# Altium integrated library TI_Logic_Flip-Flop,Latch,Register.IntLib: 2598 symbols (part 36 of 122)
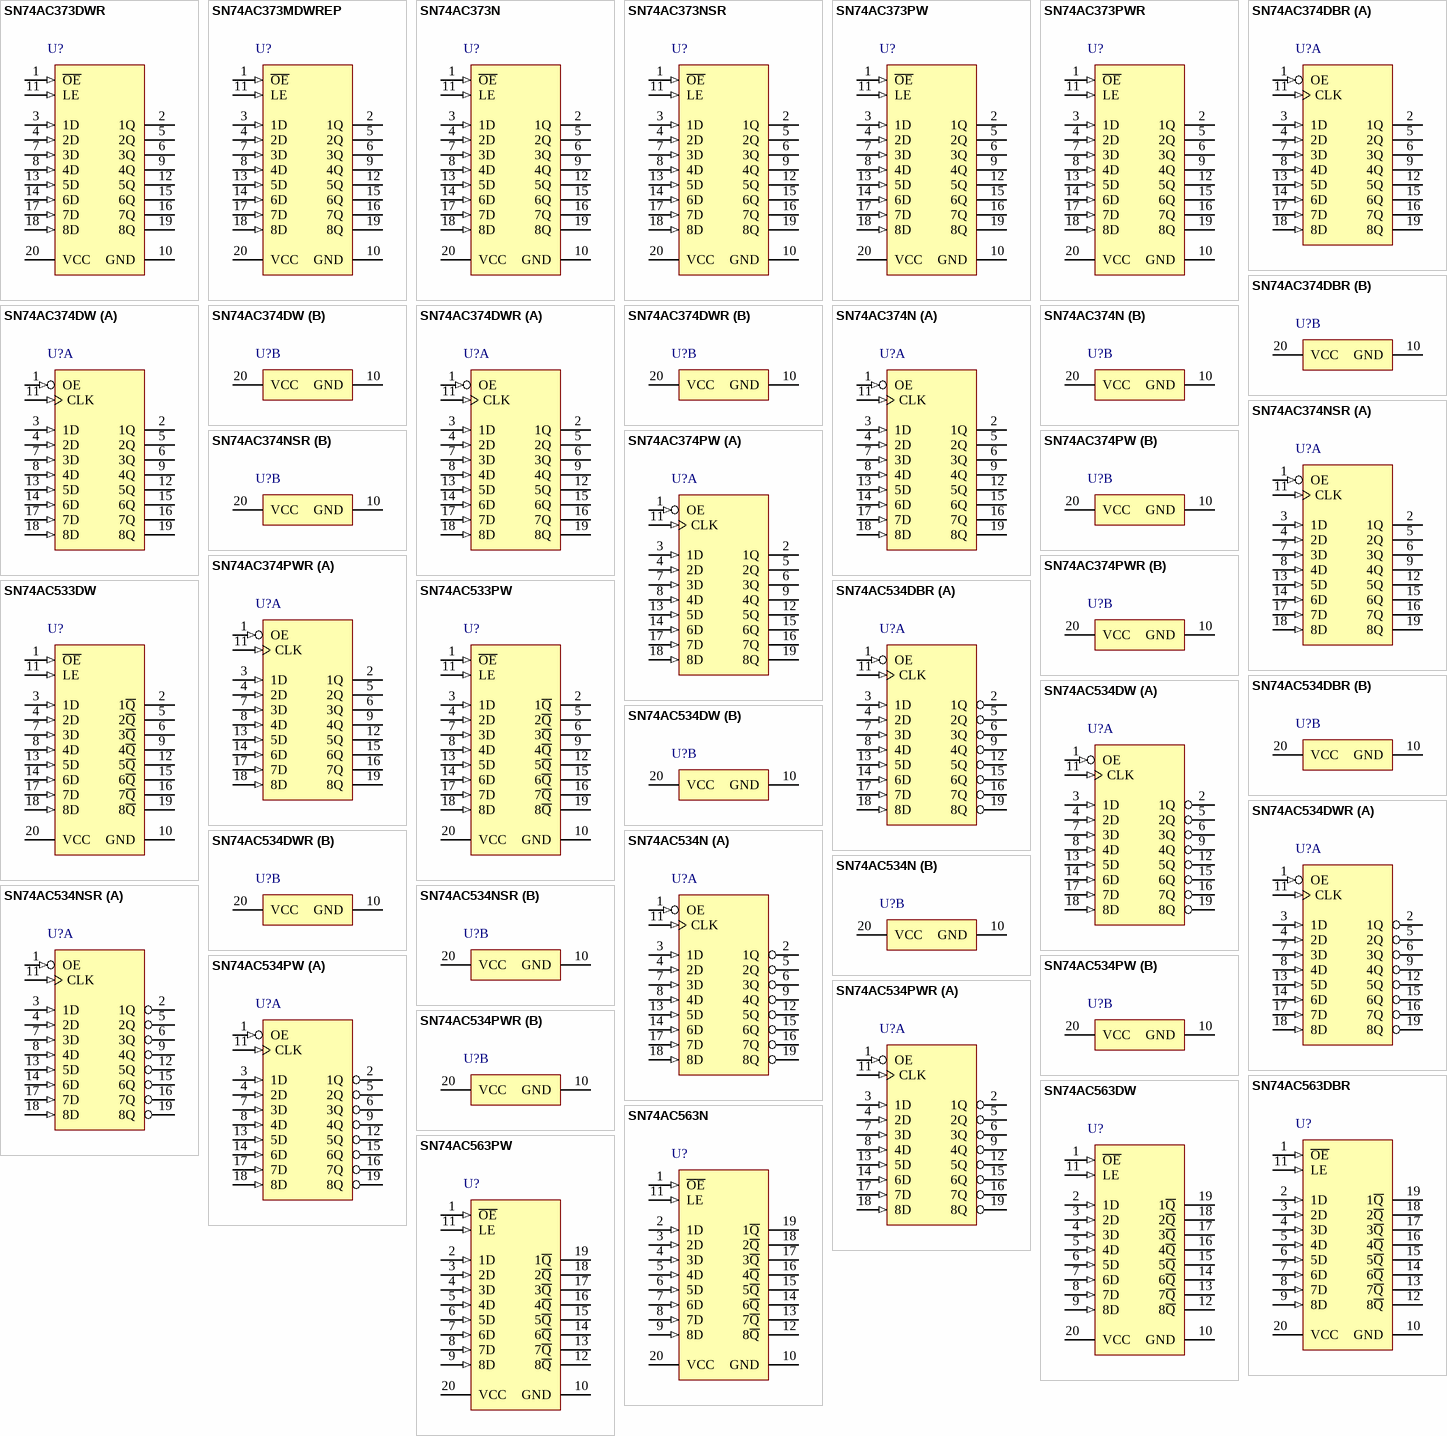
[diagram p174: symbols SN74AC373DWR to SN74AC563PW]

## SN74AC373MDWREP
designator U?
Enhanced Product Octal D-Type Transparent Latches With 3-State Outputs, DW0020A, LARGE T&R; Generic Part Number: SN74AC373-EP; Manufacturer: Texas Instruments; PartNumber: SN74AC373MDWREP; VCC(Min)(V): 2; VCC(Max)(V): 6; Output Type: CMOS; Logic: TRUE; Static Current: 0.04; ICC @ Nom Voltage(Max)(mA): 0.08; Bits(#): 8; F @ Nom Voltage(Max)(Mhz): 100; Rating: HiRel Enhanced Product; Technology Family: AC; Voltage(Nom)(V): 3.3,5; Schmitt Trigger: No; Output Drive (IOL/IOH)(Max)(mA): 24/-24; Output Logic: Non-inverted; 3-State Output: Yes; tpd @ Nom Voltage(Max)(ns): 14,10.5; DatasheetVersion: SCAS725; PackageReference: DW0020A; Supplier 1: Digi-Key; Supplier Part Number 1: 296-22253-2-ND; Supplier 2: Digi-Key; Supplier Part Number 2: 296-22253-1-ND; Supplier 3: Digi-Key; Supplier Part Number 3: 296-22253-6-ND; Supplier 4: Newark; Supplier Part Number 4: 45M9998; Supplier 5: Mouser; Supplier Part Number 5: 595-SN74AC373MDWREP; Input Type: CMOS; Operating Temperature Range(C): -55 to 125; Code_JEDEC: MS-013; ComponentLink1Description: Manufacturer URL; ComponentLink1URL: http://www.ti.com/; ComponentLink2Description: Datasheet; ComponentLink2URL: http://www.ti.com/lit/ds/symlink/sn74ac373-ep.pdf; ComponentLink3Description: Package Specification; ComponentLink3URL: http://www.ti.com/lit/ml/mpds173a/mpds173a.pdf
footprint DW0020A_N (SOIC, 20-Leads, Body 13x7.6mm, Pitch 1.27mm, IPC Medium Density)
footprint DW0020A_M (SOIC, 20-Leads, Body 13x7.6mm, Pitch 1.27mm, IPC Low Density)
footprint DW0020A_L (SOIC, 20-Leads, Body 13x7.6mm, Pitch 1.27mm, IPC High Density)
pins: 1 ~{OE} (in) "Output Enable", 2 1Q (hiz) "1Q Output", 3 1D (in) "1D Input", 4 2D (in) "2D Input", 5 2Q (hiz) "2Q Output", 6 3Q (hiz) "3Q Output", 7 3D (in) "3D Input", 8 4D (in) "4D Input", 9 4Q (hiz) "4Q Output", 10 GND (power) "Ground Pin", 11 LE (in) "Latch Enable", 12 5Q (hiz) "5Q Output", 13 5D (in) "5D Input", 14 6D (in) "6D Input", 15 6Q (hiz) "6Q Output", 16 7Q (hiz) "7Q Output", 17 7D (in) "7D Input", 18 8D (in) "8D Input", 19 8Q (hiz) "8Q Output", 20 VCC (power) "Power Pin"

## SN74AC373N
designator U?
Octal D-Type Transparent Latches With 3-State Outputs, N0020A, TUBE; Generic Part Number: SN74AC373; Manufacturer: Texas Instruments; PartNumber: SN74AC373N; VCC(Min)(V): 2; VCC(Max)(V): 6; Output Type: CMOS; Logic: True; Static Current: 0.04; Bits(#): 8; F @ Nom Voltage(Max)(Mhz): 100; Rating: Catalog; Technology Family: AC; Voltage(Nom)(V): 3.3,5; Schmitt Trigger: No; Output Drive (IOL/IOH)(Max)(mA): 24/-24; Output Logic: Non-inverted; 3-State Output: Yes; tpd @ Nom Voltage(Max)(ns): 15,10.5; DatasheetVersion: SCAS540D; PackageReference: N0020A; Supplier 1: Digi-Key; Supplier Part Number 1: 296-26376-5-ND; Supplier 2: Farnell; Supplier Part Number 2: 1740063; Supplier 3: Newark; Supplier Part Number 3: 50R5844; Supplier 4: Mouser; Supplier Part Number 4: 595-SN74AC373N; ICC @ Nom Voltage(Max)(mA): 0.04; Input Type: CMOS; Operating Temperature Range(C): -40 to 85; Code_JEDEC: MS-001; ComponentLink1Description: Manufacturer URL; ComponentLink1URL: http://www.ti.com/; ComponentLink2Description: Datasheet; ComponentLink2URL: http://www.ti.com/lit/ds/symlink/sn74ac373.pdf; ComponentLink3Description: Package Specification; ComponentLink3URL: http://www.ti.com/lit/ml/mpdi002c/mpdi002c.pdf
footprint N0020A (DIP, 20-Leads, Body 26.9x6.6mm, Pitch 2.54mm)
pins: 1 ~{OE} (in) "Output Enable", 2 1Q (hiz) "1Q Output", 3 1D (in) "1D Input", 4 2D (in) "2D Input", 5 2Q (hiz) "2Q Output", 6 3Q (hiz) "3Q Output", 7 3D (in) "3D Input", 8 4D (in) "4D Input", 9 4Q (hiz) "4Q Output", 10 GND (power) "Ground Pin", 11 LE (in) "Latch Enable", 12 5Q (hiz) "5Q Output", 13 5D (in) "5D Input", 14 6D (in) "6D Input", 15 6Q (hiz) "6Q Output", 16 7Q (hiz) "7Q Output", 17 7D (in) "7D Input", 18 8D (in) "8D Input", 19 8Q (hiz) "8Q Output", 20 VCC (power) "Power Pin"

## SN74AC373NSR
designator U?
Octal D-Type Transparent Latches With 3-State Outputs, NS0020A, LARGE T&R; Generic Part Number: SN74AC373; Manufacturer: Texas Instruments; PartNumber: SN74AC373NSR; VCC(Min)(V): 2; VCC(Max)(V): 6; Output Type: CMOS; Logic: True; Static Current: 0.04; Bits(#): 8; F @ Nom Voltage(Max)(Mhz): 100; Rating: Catalog; Technology Family: AC; Voltage(Nom)(V): 3.3,5; Schmitt Trigger: No; Output Drive (IOL/IOH)(Max)(mA): 24/-24; Output Logic: Non-inverted; 3-State Output: Yes; tpd @ Nom Voltage(Max)(ns): 15,10.5; DatasheetVersion: SCAS540D; PackageReference: NS0020A; Supplier 1: Digi-Key; Supplier Part Number 1: 296-4322-2-ND; Supplier 2: Digi-Key; Supplier Part Number 2: 296-4322-1-ND; Supplier 3: Digi-Key; Supplier Part Number 3: 296-4322-6-ND; Supplier 4: Mouser; Supplier Part Number 4: 595-SN74AC373NSR; ICC @ Nom Voltage(Max)(mA): 0.04; Input Type: CMOS; Operating Temperature Range(C): -40 to 85; ComponentLink1Description: Manufacturer URL; ComponentLink1URL: http://www.ti.com/; ComponentLink2Description: Datasheet; ComponentLink2URL: http://www.ti.com/lit/ds/symlink/sn74ac373.pdf; ComponentLink3Description: Package Specification; ComponentLink3URL: http://www.ti.com/lit/ml/msop002a/msop002a.pdf
footprint NS0020A_N (SOIC,20-Leads,Body 12.9x5.6mm,Pitch 1.27mm,IPC Medium Density)
footprint NS0020A_M (SOIC,20-Leads,Body 12.9x5.6mm,Pitch 1.27mm,IPC Low Density)
footprint NS0020A_L (SOIC,20-Leads,Body 12.9x5.6mm,Pitch 1.27mm,IPC High Density)
pins: 1 ~{OE} (in) "Output Enable", 2 1Q (hiz) "1Q Output", 3 1D (in) "1D Input", 4 2D (in) "2D Input", 5 2Q (hiz) "2Q Output", 6 3Q (hiz) "3Q Output", 7 3D (in) "3D Input", 8 4D (in) "4D Input", 9 4Q (hiz) "4Q Output", 10 GND (power) "Ground Pin", 11 LE (in) "Latch Enable", 12 5Q (hiz) "5Q Output", 13 5D (in) "5D Input", 14 6D (in) "6D Input", 15 6Q (hiz) "6Q Output", 16 7Q (hiz) "7Q Output", 17 7D (in) "7D Input", 18 8D (in) "8D Input", 19 8Q (hiz) "8Q Output", 20 VCC (power) "Power Pin"

## SN74AC373PW
designator U?
Octal D-Type Transparent Latches With 3-State Outputs, PW0020A, TUBE; Generic Part Number: SN74AC373; Manufacturer: Texas Instruments; PartNumber: SN74AC373PW; VCC(Min)(V): 2; VCC(Max)(V): 6; Output Type: CMOS; Logic: True; Static Current: 0.04; Bits(#): 8; F @ Nom Voltage(Max)(Mhz): 100; Rating: Catalog; Technology Family: AC; Voltage(Nom)(V): 3.3,5; Schmitt Trigger: No; Output Drive (IOL/IOH)(Max)(mA): 24/-24; Output Logic: Non-inverted; 3-State Output: Yes; tpd @ Nom Voltage(Max)(ns): 15,10.5; DatasheetVersion: SCAS540D; PackageReference: PW0020A; Supplier 1: Digi-Key; Supplier Part Number 1: SN74AC373PW-ND; Supplier 2: Newark; Supplier Part Number 2: 22H0175; Supplier 3: Mouser; Supplier Part Number 3: 595-SN74AC373PW; ICC @ Nom Voltage(Max)(mA): 0.04; Input Type: CMOS; Operating Temperature Range(C): -40 to 85; Code_JEDEC: MO-153; ComponentLink1Description: Manufacturer URL; ComponentLink1URL: http://www.ti.com/; ComponentLink2Description: Datasheet; ComponentLink2URL: http://www.ti.com/lit/ds/symlink/sn74ac373.pdf; ComponentLink3Description: Package Specification; ComponentLink3URL: http://www.ti.com/lit/ml/mpds362/mpds362.pdf
footprint PW0020A_N (SOP, 20-Leads, Body 6.6x4.5mm, Pitch 0.65mm, IPC Medium Density)
footprint PW0020A_M (SOP, 20-Leads, Body 6.6x4.5mm, Pitch 0.65mm, IPC Low Density)
footprint PW0020A_L (SOP, 20-Leads, Body 6.6x4.5mm, Pitch 0.65mm, IPC High Density)
pins: 1 ~{OE} (in) "Output Enable", 2 1Q (hiz) "1Q Output", 3 1D (in) "1D Input", 4 2D (in) "2D Input", 5 2Q (hiz) "2Q Output", 6 3Q (hiz) "3Q Output", 7 3D (in) "3D Input", 8 4D (in) "4D Input", 9 4Q (hiz) "4Q Output", 10 GND (power) "Ground Pin", 11 LE (in) "Latch Enable", 12 5Q (hiz) "5Q Output", 13 5D (in) "5D Input", 14 6D (in) "6D Input", 15 6Q (hiz) "6Q Output", 16 7Q (hiz) "7Q Output", 17 7D (in) "7D Input", 18 8D (in) "8D Input", 19 8Q (hiz) "8Q Output", 20 VCC (power) "Power Pin"

## SN74AC373PWR
designator U?
Octal D-Type Transparent Latches With 3-State Outputs, PW0020A, LARGE T&R; Generic Part Number: SN74AC373; Manufacturer: Texas Instruments; PartNumber: SN74AC373PWR; VCC(Min)(V): 2; VCC(Max)(V): 6; Output Type: CMOS; Logic: True; Static Current: 0.04; Bits(#): 8; F @ Nom Voltage(Max)(Mhz): 100; Rating: Catalog; Technology Family: AC; Voltage(Nom)(V): 3.3,5; Schmitt Trigger: No; Output Drive (IOL/IOH)(Max)(mA): 24/-24; Output Logic: Non-inverted; 3-State Output: Yes; tpd @ Nom Voltage(Max)(ns): 15,10.5; DatasheetVersion: SCAS540D; PackageReference: PW0020A; Supplier 1: Digi-Key; Supplier Part Number 1: 296-4323-2-ND; Supplier 2: Digi-Key; Supplier Part Number 2: 296-4323-1-ND; Supplier 3: Digi-Key; Supplier Part Number 3: 296-4323-6-ND; Supplier 4: Farnell; Supplier Part Number 4: 2407138; Supplier 5: Farnell; Supplier Part Number 5: 2407138RL; Supplier 6: Newark; Supplier Part Number 6: 76C1411; Supplier 7: Newark; Supplier Part Number 7: 62X5333; Supplier 8: Mouser; Supplier Part Number 8: 595-SN74AC373PWR; ICC @ Nom Voltage(Max)(mA): 0.04; Input Type: CMOS; Operating Temperature Range(C): -40 to 85; Code_JEDEC: MO-153; ComponentLink1Description: Manufacturer URL; ComponentLink1URL: http://www.ti.com/; ComponentLink2Description: Datasheet; ComponentLink2URL: http://www.ti.com/lit/ds/symlink/sn74ac373.pdf; ComponentLink3Description: Package Specification; ComponentLink3URL: http://www.ti.com/lit/ml/mpds362/mpds362.pdf
footprint PW0020A_N (SOP, 20-Leads, Body 6.6x4.5mm, Pitch 0.65mm, IPC Medium Density)
footprint PW0020A_M (SOP, 20-Leads, Body 6.6x4.5mm, Pitch 0.65mm, IPC Low Density)
footprint PW0020A_L (SOP, 20-Leads, Body 6.6x4.5mm, Pitch 0.65mm, IPC High Density)
pins: 1 ~{OE} (in) "Output Enable", 2 1Q (hiz) "1Q Output", 3 1D (in) "1D Input", 4 2D (in) "2D Input", 5 2Q (hiz) "2Q Output", 6 3Q (hiz) "3Q Output", 7 3D (in) "3D Input", 8 4D (in) "4D Input", 9 4Q (hiz) "4Q Output", 10 GND (power) "Ground Pin", 11 LE (in) "Latch Enable", 12 5Q (hiz) "5Q Output", 13 5D (in) "5D Input", 14 6D (in) "6D Input", 15 6Q (hiz) "6Q Output", 16 7Q (hiz) "7Q Output", 17 7D (in) "7D Input", 18 8D (in) "8D Input", 19 8Q (hiz) "8Q Output", 20 VCC (power) "Power Pin"

## SN74AC374DBR
designator U?
Octal D-Type Edge-Triggered Flip-Flops with 3-State Outputs, DB0020A, LARGE T&R; Generic Part Number: SN74AC374; Manufacturer: Texas Instruments; PartNumber: SN74AC374DBR; VCC(Min)(V): 2; VCC(Max)(V): 6; Output Type: CMOS; ICC @ Nom Voltage(Max)(mA): 0.04; Bits(#): 8; F @ Nom Voltage(Max)(Mhz): 100; Rating: Catalog; Technology Family: AC; Voltage(Nom)(V): 3.3,5; Schmitt Trigger: No; Output Drive (IOL/IOH)(Max)(mA): 24/-24; Output Logic: Non-inverted; 3-State Output: Yes; tpd @ Nom Voltage(Max)(ns): 15.5,10.5; DatasheetVersion: SCAS543E; PackageReference: DB0020A; Supplier 1: Digi-Key; Supplier Part Number 1: 296-4324-2-ND; Supplier 2: Digi-Key; Supplier Part Number 2: 296-4324-1-ND; Supplier 3: Digi-Key; Supplier Part Number 3: 296-4324-6-ND; Supplier 4: Mouser; Supplier Part Number 4: 595-SN74AC374DBR; Input Type: CMOS; Operating Temperature Range(C): -40 to 85; Code_JEDEC: MO-150; ComponentLink1Description: Manufacturer URL; ComponentLink1URL: http://www.ti.com/; ComponentLink2Description: Datasheet; ComponentLink2URL: http://www.ti.com/lit/ds/symlink/sn74ac374.pdf; ComponentLink3Description: Package Specification; ComponentLink3URL: http://www.ti.com/lit/ml/mpds508/mpds508.pdf
footprint DB0020A_N (SOP, 20-Leads, Body 5.6x7.5mm, Pitch 0.65mm, IPC Medium Density)
footprint DB0020A_M (SOP, 20-Leads, Body 5.6x7.5mm, Pitch 0.65mm, IPC Low Density)
footprint DB0020A_L (SOP, 20-Leads, Body 5.6x7.5mm, Pitch 0.65mm, IPC High Density)
part A pins: 1 OE (in), 2 1Q (hiz), 3 1D (in), 4 2D (in), 5 2Q (hiz), 6 3Q (hiz), 7 3D (in), 8 4D (in), 9 4Q (hiz), 11 CLK (in), 12 5Q (hiz), 13 5D (in), 14 6D (in), 15 6Q (hiz), 16 7Q (hiz), 17 7D (in), 18 8D (in), 19 8Q (hiz)
part B pins: 10 GND (power), 20 VCC (power)

## SN74AC374DW
designator U?
Octal D-Type Edge-Triggered Flip-Flops with 3-State Outputs, DW0020A, TUBE; Generic Part Number: SN74AC374; Manufacturer: Texas Instruments; PartNumber: SN74AC374DW; VCC(Min)(V): 2; VCC(Max)(V): 6; Output Type: CMOS; ICC @ Nom Voltage(Max)(mA): 0.04; Bits(#): 8; F @ Nom Voltage(Max)(Mhz): 100; Rating: Catalog; Technology Family: AC; Voltage(Nom)(V): 3.3,5; Schmitt Trigger: No; Output Drive (IOL/IOH)(Max)(mA): 24/-24; Output Logic: Non-inverted; 3-State Output: Yes; tpd @ Nom Voltage(Max)(ns): 15.5,10.5; DatasheetVersion: SCAS543E; PackageReference: DW0020A; Supplier 1: Digi-Key; Supplier Part Number 1: 296-1060-5-ND; Supplier 2: Farnell; Supplier Part Number 2: 1607720; Supplier 3: Newark; Supplier Part Number 3: 35K0762; Supplier 4: Mouser; Supplier Part Number 4: 595-SN74AC374DW; Input Type: CMOS; Operating Temperature Range(C): -40 to 85; Code_JEDEC: MS-013; ComponentLink1Description: Manufacturer URL; ComponentLink1URL: http://www.ti.com/; ComponentLink2Description: Datasheet; ComponentLink2URL: http://www.ti.com/lit/ds/symlink/sn74ac374.pdf; ComponentLink3Description: Package Specification; ComponentLink3URL: http://www.ti.com/lit/ml/mpds173a/mpds173a.pdf
footprint DW0020A_N (SOIC, 20-Leads, Body 13x7.6mm, Pitch 1.27mm, IPC Medium Density)
footprint DW0020A_M (SOIC, 20-Leads, Body 13x7.6mm, Pitch 1.27mm, IPC Low Density)
footprint DW0020A_L (SOIC, 20-Leads, Body 13x7.6mm, Pitch 1.27mm, IPC High Density)
part A pins: 1 OE (in), 2 1Q (hiz), 3 1D (in), 4 2D (in), 5 2Q (hiz), 6 3Q (hiz), 7 3D (in), 8 4D (in), 9 4Q (hiz), 11 CLK (in), 12 5Q (hiz), 13 5D (in), 14 6D (in), 15 6Q (hiz), 16 7Q (hiz), 17 7D (in), 18 8D (in), 19 8Q (hiz)
part B pins: 10 GND (power), 20 VCC (power)

## SN74AC374DWR
designator U?
Octal D-Type Edge-Triggered Flip-Flops with 3-State Outputs, DW0020A, LARGE T&R; Generic Part Number: SN74AC374; Manufacturer: Texas Instruments; PartNumber: SN74AC374DWR; VCC(Min)(V): 2; VCC(Max)(V): 6; Output Type: CMOS; ICC @ Nom Voltage(Max)(mA): 0.04; Bits(#): 8; F @ Nom Voltage(Max)(Mhz): 100; Rating: Catalog; Technology Family: AC; Voltage(Nom)(V): 3.3,5; Schmitt Trigger: No; Output Drive (IOL/IOH)(Max)(mA): 24/-24; Output Logic: Non-inverted; 3-State Output: Yes; tpd @ Nom Voltage(Max)(ns): 15.5,10.5; DatasheetVersion: SCAS543E; PackageReference: DW0020A; Supplier 1: Digi-Key; Supplier Part Number 1: 296-1060-2-ND; Supplier 2: Digi-Key; Supplier Part Number 2: 296-1060-1-ND; Supplier 3: Digi-Key; Supplier Part Number 3: 296-1060-6-ND; Supplier 4: Mouser; Supplier Part Number 4: 595-SN74AC374DWR; Input Type: CMOS; Operating Temperature Range(C): -40 to 85; Code_JEDEC: MS-013; ComponentLink1Description: Manufacturer URL; ComponentLink1URL: http://www.ti.com/; ComponentLink2Description: Datasheet; ComponentLink2URL: http://www.ti.com/lit/ds/symlink/sn74ac374.pdf; ComponentLink3Description: Package Specification; ComponentLink3URL: http://www.ti.com/lit/ml/mpds173a/mpds173a.pdf
footprint DW0020A_N (SOIC, 20-Leads, Body 13x7.6mm, Pitch 1.27mm, IPC Medium Density)
footprint DW0020A_M (SOIC, 20-Leads, Body 13x7.6mm, Pitch 1.27mm, IPC Low Density)
footprint DW0020A_L (SOIC, 20-Leads, Body 13x7.6mm, Pitch 1.27mm, IPC High Density)
part A pins: 1 OE (in), 2 1Q (hiz), 3 1D (in), 4 2D (in), 5 2Q (hiz), 6 3Q (hiz), 7 3D (in), 8 4D (in), 9 4Q (hiz), 11 CLK (in), 12 5Q (hiz), 13 5D (in), 14 6D (in), 15 6Q (hiz), 16 7Q (hiz), 17 7D (in), 18 8D (in), 19 8Q (hiz)
part B pins: 10 GND (power), 20 VCC (power)

## SN74AC374N
designator U?
Octal D-Type Edge-Triggered Flip-Flops with 3-State Outputs, N0020A, TUBE; Generic Part Number: SN74AC374; Manufacturer: Texas Instruments; PartNumber: SN74AC374N; VCC(Min)(V): 2; VCC(Max)(V): 6; Output Type: CMOS; ICC @ Nom Voltage(Max)(mA): 0.04; Bits(#): 8; F @ Nom Voltage(Max)(Mhz): 100; Rating: Catalog; Technology Family: AC; Voltage(Nom)(V): 3.3,5; Schmitt Trigger: No; Output Drive (IOL/IOH)(Max)(mA): 24/-24; Output Logic: Non-inverted; 3-State Output: Yes; tpd @ Nom Voltage(Max)(ns): 15.5,10.5; DatasheetVersion: SCAS543E; PackageReference: N0020A; Supplier 1: Digi-Key; Supplier Part Number 1: 296-33647-5-ND; Supplier 2: Farnell; Supplier Part Number 2: 1739862; Supplier 3: Newark; Supplier Part Number 3: 50R5846; Supplier 4: Mouser; Supplier Part Number 4: 595-SN74AC374N; Input Type: CMOS; Operating Temperature Range(C): -40 to 85; Code_JEDEC: MS-001; ComponentLink1Description: Manufacturer URL; ComponentLink1URL: http://www.ti.com/; ComponentLink2Description: Datasheet; ComponentLink2URL: http://www.ti.com/lit/ds/symlink/sn74ac374.pdf; ComponentLink3Description: Package Specification; ComponentLink3URL: http://www.ti.com/lit/ml/mpdi002c/mpdi002c.pdf
footprint N0020A (DIP, 20-Leads, Body 26.9x6.6mm, Pitch 2.54mm)
part A pins: 1 OE (in), 2 1Q (hiz), 3 1D (in), 4 2D (in), 5 2Q (hiz), 6 3Q (hiz), 7 3D (in), 8 4D (in), 9 4Q (hiz), 11 CLK (in), 12 5Q (hiz), 13 5D (in), 14 6D (in), 15 6Q (hiz), 16 7Q (hiz), 17 7D (in), 18 8D (in), 19 8Q (hiz)
part B pins: 10 GND (power), 20 VCC (power)

## SN74AC374NSR
designator U?
Octal D-Type Edge-Triggered Flip-Flops with 3-State Outputs, NS0020A, LARGE T&R; Generic Part Number: SN74AC374; Manufacturer: Texas Instruments; PartNumber: SN74AC374NSR; VCC(Min)(V): 2; VCC(Max)(V): 6; Output Type: CMOS; ICC @ Nom Voltage(Max)(mA): 0.04; Bits(#): 8; F @ Nom Voltage(Max)(Mhz): 100; Rating: Catalog; Technology Family: AC; Voltage(Nom)(V): 3.3,5; Schmitt Trigger: No; Output Drive (IOL/IOH)(Max)(mA): 24/-24; Output Logic: Non-inverted; 3-State Output: Yes; tpd @ Nom Voltage(Max)(ns): 15.5,10.5; DatasheetVersion: SCAS543E; PackageReference: NS0020A; Supplier 1: Digi-Key; Supplier Part Number 1: 296-29118-2-ND; Supplier 2: Digi-Key; Supplier Part Number 2: 296-29118-1-ND; Supplier 3: Digi-Key; Supplier Part Number 3: 296-29118-6-ND; Supplier 4: Mouser; Supplier Part Number 4: 595-SN74AC374NSR; Input Type: CMOS; Operating Temperature Range(C): -40 to 85; ComponentLink1Description: Manufacturer URL; ComponentLink1URL: http://www.ti.com/; ComponentLink2Description: Datasheet; ComponentLink2URL: http://www.ti.com/lit/ds/symlink/sn74ac374.pdf; ComponentLink3Description: Package Specification; ComponentLink3URL: http://www.ti.com/lit/ml/msop002a/msop002a.pdf
footprint NS0020A_N (SOIC,20-Leads,Body 12.9x5.6mm,Pitch 1.27mm,IPC Medium Density)
footprint NS0020A_M (SOIC,20-Leads,Body 12.9x5.6mm,Pitch 1.27mm,IPC Low Density)
footprint NS0020A_L (SOIC,20-Leads,Body 12.9x5.6mm,Pitch 1.27mm,IPC High Density)
part A pins: 1 OE (in), 2 1Q (hiz), 3 1D (in), 4 2D (in), 5 2Q (hiz), 6 3Q (hiz), 7 3D (in), 8 4D (in), 9 4Q (hiz), 11 CLK (in), 12 5Q (hiz), 13 5D (in), 14 6D (in), 15 6Q (hiz), 16 7Q (hiz), 17 7D (in), 18 8D (in), 19 8Q (hiz)
part B pins: 10 GND (power), 20 VCC (power)

## SN74AC374PW
designator U?
Octal D-Type Edge-Triggered Flip-Flops with 3-State Outputs, PW0020A, TUBE; Generic Part Number: SN74AC374; Manufacturer: Texas Instruments; PartNumber: SN74AC374PW; VCC(Min)(V): 2; VCC(Max)(V): 6; Output Type: CMOS; ICC @ Nom Voltage(Max)(mA): 0.04; Bits(#): 8; F @ Nom Voltage(Max)(Mhz): 100; Rating: Catalog; Technology Family: AC; Voltage(Nom)(V): 3.3,5; Schmitt Trigger: No; Output Drive (IOL/IOH)(Max)(mA): 24/-24; Output Logic: Non-inverted; 3-State Output: Yes; tpd @ Nom Voltage(Max)(ns): 15.5,10.5; DatasheetVersion: SCAS543E; PackageReference: PW0020A; Supplier 1: Digi-Key; Supplier Part Number 1: SN74AC374PW-ND; Supplier 2: Farnell; Supplier Part Number 2: 1741101; Supplier 3: Mouser; Supplier Part Number 3: 595-SN74AC374PW; Input Type: CMOS; Operating Temperature Range(C): -40 to 85; Code_JEDEC: MO-153; ComponentLink1Description: Manufacturer URL; ComponentLink1URL: http://www.ti.com/; ComponentLink2Description: Datasheet; ComponentLink2URL: http://www.ti.com/lit/ds/symlink/sn74ac374.pdf; ComponentLink3Description: Package Specification; ComponentLink3URL: http://www.ti.com/lit/ml/mpds362/mpds362.pdf
footprint PW0020A_N (SOP, 20-Leads, Body 6.6x4.5mm, Pitch 0.65mm, IPC Medium Density)
footprint PW0020A_M (SOP, 20-Leads, Body 6.6x4.5mm, Pitch 0.65mm, IPC Low Density)
footprint PW0020A_L (SOP, 20-Leads, Body 6.6x4.5mm, Pitch 0.65mm, IPC High Density)
part A pins: 1 OE (in), 2 1Q (hiz), 3 1D (in), 4 2D (in), 5 2Q (hiz), 6 3Q (hiz), 7 3D (in), 8 4D (in), 9 4Q (hiz), 11 CLK (in), 12 5Q (hiz), 13 5D (in), 14 6D (in), 15 6Q (hiz), 16 7Q (hiz), 17 7D (in), 18 8D (in), 19 8Q (hiz)
part B pins: 10 GND (power), 20 VCC (power)

## SN74AC374PWR
designator U?
Octal D-Type Edge-Triggered Flip-Flops with 3-State Outputs, PW0020A, LARGE T&R; Generic Part Number: SN74AC374; Manufacturer: Texas Instruments; PartNumber: SN74AC374PWR; VCC(Min)(V): 2; VCC(Max)(V): 6; Output Type: CMOS; ICC @ Nom Voltage(Max)(mA): 0.04; Bits(#): 8; F @ Nom Voltage(Max)(Mhz): 100; Rating: Catalog; Technology Family: AC; Voltage(Nom)(V): 3.3,5; Schmitt Trigger: No; Output Drive (IOL/IOH)(Max)(mA): 24/-24; Output Logic: Non-inverted; 3-State Output: Yes; tpd @ Nom Voltage(Max)(ns): 15.5,10.5; DatasheetVersion: SCAS543E; PackageReference: PW0020A; Supplier 1: Digi-Key; Supplier Part Number 1: 296-4325-2-ND; Supplier 2: Digi-Key; Supplier Part Number 2: 296-4325-1-ND; Supplier 3: Digi-Key; Supplier Part Number 3: 296-4325-6-ND; Supplier 4: Newark; Supplier Part Number 4: 76C1415; Supplier 5: Mouser; Supplier Part Number 5: 595-SN74AC374PWR; Input Type: CMOS; Operating Temperature Range(C): -40 to 85; Code_JEDEC: MO-153; ComponentLink1Description: Manufacturer URL; ComponentLink1URL: http://www.ti.com/; ComponentLink2Description: Datasheet; ComponentLink2URL: http://www.ti.com/lit/ds/symlink/sn74ac374.pdf; ComponentLink3Description: Package Specification; ComponentLink3URL: http://www.ti.com/lit/ml/mpds362/mpds362.pdf
footprint PW0020A_N (SOP, 20-Leads, Body 6.6x4.5mm, Pitch 0.65mm, IPC Medium Density)
footprint PW0020A_M (SOP, 20-Leads, Body 6.6x4.5mm, Pitch 0.65mm, IPC Low Density)
footprint PW0020A_L (SOP, 20-Leads, Body 6.6x4.5mm, Pitch 0.65mm, IPC High Density)
part A pins: 1 OE (in), 2 1Q (hiz), 3 1D (in), 4 2D (in), 5 2Q (hiz), 6 3Q (hiz), 7 3D (in), 8 4D (in), 9 4Q (hiz), 11 CLK (in), 12 5Q (hiz), 13 5D (in), 14 6D (in), 15 6Q (hiz), 16 7Q (hiz), 17 7D (in), 18 8D (in), 19 8Q (hiz)
part B pins: 10 GND (power), 20 VCC (power)

## SN74AC533DW
designator U?
Octal Transparent D-Type Latches With 3-State Outputs, DW0020A, TUBE; Generic Part Number: SN74AC533; Manufacturer: Texas Instruments; PartNumber: SN74AC533DW; VCC(Min)(V): 2; VCC(Max)(V): 6; Output Type: CMOS; Logic: Inverting; Static Current: 0.04; Bits(#): 8; F @ Nom Voltage(Max)(Mhz): 100; Rating: Catalog; Technology Family: AC; Voltage(Nom)(V): 3.3,5; Schmitt Trigger: No; Output Drive (IOL/IOH)(Max)(mA): 24/-24; Output Logic: Inverted; 3-State Output: Yes; tpd @ Nom Voltage(Max)(ns): 16,11; DatasheetVersion: SCAS555C; PackageReference: DW0020A; Supplier 1: Digi-Key; Supplier Part Number 1: 296-4327-5-ND; Supplier 2: Farnell; Supplier Part Number 2: 1750083; Supplier 3: Mouser; Supplier Part Number 3: 595-SN74AC533DW; ICC @ Nom Voltage(Max)(mA): 0.04; Input Type: CMOS; Operating Temperature Range(C): -40 to 85; Code_JEDEC: MS-013; ComponentLink1Description: Manufacturer URL; ComponentLink1URL: http://www.ti.com/; ComponentLink2Description: Datasheet; ComponentLink2URL: http://www.ti.com/lit/ds/symlink/sn74ac533.pdf; ComponentLink3Description: Package Specification; ComponentLink3URL: http://www.ti.com/lit/ml/mpds173a/mpds173a.pdf
footprint DW0020A_N (SOIC, 20-Leads, Body 13x7.6mm, Pitch 1.27mm, IPC Medium Density)
footprint DW0020A_M (SOIC, 20-Leads, Body 13x7.6mm, Pitch 1.27mm, IPC Low Density)
footprint DW0020A_L (SOIC, 20-Leads, Body 13x7.6mm, Pitch 1.27mm, IPC High Density)
pins: 1 ~{OE} (in), 2 1~{Q} (hiz), 3 1D (in), 4 2D (in), 5 2~{Q} (hiz), 6 3~{Q} (hiz), 7 3D (in), 8 4D (in), 9 4~{Q} (hiz), 10 GND (power), 11 LE (in), 12 5~{Q} (hiz), 13 5D (in), 14 6D (in), 15 6~{Q} (hiz), 16 7~{Q} (hiz), 17 7D (in), 18 8D (in), 19 8~{Q} (hiz), 20 VCC (power)

## SN74AC533PW
designator U?
Octal Transparent D-Type Latches With 3-State Outputs, PW0020A, TUBE; Generic Part Number: SN74AC533; Manufacturer: Texas Instruments; PartNumber: SN74AC533PW; VCC(Min)(V): 2; VCC(Max)(V): 6; Output Type: CMOS; Logic: Inverting; Static Current: 0.04; Bits(#): 8; F @ Nom Voltage(Max)(Mhz): 100; Rating: Catalog; Technology Family: AC; Voltage(Nom)(V): 3.3,5; Schmitt Trigger: No; Output Drive (IOL/IOH)(Max)(mA): 24/-24; Output Logic: Inverted; 3-State Output: Yes; tpd @ Nom Voltage(Max)(ns): 16,11; DatasheetVersion: SCAS555C; PackageReference: PW0020A; Supplier 1: Digi-Key; Supplier Part Number 1: SN74AC533PW-ND; Supplier 2: Mouser; Supplier Part Number 2: 595-SN74AC533PW; ICC @ Nom Voltage(Max)(mA): 0.04; Input Type: CMOS; Operating Temperature Range(C): -40 to 85; Code_JEDEC: MO-153; ComponentLink1Description: Manufacturer URL; ComponentLink1URL: http://www.ti.com/; ComponentLink2Description: Datasheet; ComponentLink2URL: http://www.ti.com/lit/ds/symlink/sn74ac533.pdf; ComponentLink3Description: Package Specification; ComponentLink3URL: http://www.ti.com/lit/ml/mpds362/mpds362.pdf
footprint PW0020A_N (SOP, 20-Leads, Body 6.6x4.5mm, Pitch 0.65mm, IPC Medium Density)
footprint PW0020A_M (SOP, 20-Leads, Body 6.6x4.5mm, Pitch 0.65mm, IPC Low Density)
footprint PW0020A_L (SOP, 20-Leads, Body 6.6x4.5mm, Pitch 0.65mm, IPC High Density)
pins: 1 ~{OE} (in), 2 1~{Q} (hiz), 3 1D (in), 4 2D (in), 5 2~{Q} (hiz), 6 3~{Q} (hiz), 7 3D (in), 8 4D (in), 9 4~{Q} (hiz), 10 GND (power), 11 LE (in), 12 5~{Q} (hiz), 13 5D (in), 14 6D (in), 15 6~{Q} (hiz), 16 7~{Q} (hiz), 17 7D (in), 18 8D (in), 19 8~{Q} (hiz), 20 VCC (power)

## SN74AC534DBR
designator U?
Octal Edge-Triggered D-Type Flip-Flops With 3-State Outputs, DB0020A, LARGE T&R; Generic Part Number: SN74AC534; Manufacturer: Texas Instruments; PartNumber: SN74AC534DBR; VCC(Min)(V): 2; VCC(Max)(V): 6; Output Type: CMOS; ICC @ Nom Voltage(Max)(mA): 0.04; Bits(#): 8; F @ Nom Voltage(Max)(Mhz): 100; Rating: Catalog; Technology Family: AC; Voltage(Nom)(V): 3.3,5; Schmitt Trigger: No; Output Drive (IOL/IOH)(Max)(mA): 24/-24; Output Logic: Inverted; 3-State Output: Yes; tpd @ Nom Voltage(Max)(ns): 16,12; DatasheetVersion: SCAS554D; PackageReference: DB0020A; Supplier 1: Digi-Key; Supplier Part Number 1: 296-4329-2-ND; Supplier 2: Digi-Key; Supplier Part Number 2: 296-4329-1-ND; Supplier 3: Digi-Key; Supplier Part Number 3: 296-4329-6-ND; Supplier 4: Mouser; Supplier Part Number 4: 595-SN74AC534DBR; Input Type: CMOS; Operating Temperature Range(C): -40 to 85; Code_JEDEC: MO-150; ComponentLink1Description: Manufacturer URL; ComponentLink1URL: http://www.ti.com/; ComponentLink2Description: Datasheet; ComponentLink2URL: http://www.ti.com/lit/ds/symlink/sn74ac534.pdf; ComponentLink3Description: Package Specification; ComponentLink3URL: http://www.ti.com/lit/ml/mpds508/mpds508.pdf
footprint DB0020A_N (SOP, 20-Leads, Body 5.6x7.5mm, Pitch 0.65mm, IPC Medium Density)
footprint DB0020A_M (SOP, 20-Leads, Body 5.6x7.5mm, Pitch 0.65mm, IPC Low Density)
footprint DB0020A_L (SOP, 20-Leads, Body 5.6x7.5mm, Pitch 0.65mm, IPC High Density)
part A pins: 1 OE (in), 2 1Q (hiz), 3 1D (in), 4 2D (in), 5 2Q (hiz), 6 3Q (hiz), 7 3D (in), 8 4D (in), 9 4Q (hiz), 11 CLK (in), 12 5Q (hiz), 13 5D (in), 14 6D (in), 15 6Q (hiz), 16 7Q (hiz), 17 7D (in), 18 8D (in), 19 8Q (hiz)
part B pins: 10 GND (power), 20 VCC (power)

## SN74AC534DW
designator U?
Octal Edge-Triggered D-Type Flip-Flops With 3-State Outputs, DW0020A, TUBE; Generic Part Number: SN74AC534; Manufacturer: Texas Instruments; PartNumber: SN74AC534DW; VCC(Min)(V): 2; VCC(Max)(V): 6; Output Type: CMOS; ICC @ Nom Voltage(Max)(mA): 0.04; Bits(#): 8; F @ Nom Voltage(Max)(Mhz): 100; Rating: Catalog; Technology Family: AC; Voltage(Nom)(V): 3.3,5; Schmitt Trigger: No; Output Drive (IOL/IOH)(Max)(mA): 24/-24; Output Logic: Inverted; 3-State Output: Yes; tpd @ Nom Voltage(Max)(ns): 16,12; DatasheetVersion: SCAS554D; PackageReference: DW0020A; Supplier 1: Digi-Key; Supplier Part Number 1: 296-4330-5-ND; Supplier 2: Farnell; Supplier Part Number 2: 1741099; Supplier 3: Mouser; Supplier Part Number 3: 595-SN74AC534DW; Input Type: CMOS; Operating Temperature Range(C): -40 to 85; Code_JEDEC: MS-013; ComponentLink1Description: Manufacturer URL; ComponentLink1URL: http://www.ti.com/; ComponentLink2Description: Datasheet; ComponentLink2URL: http://www.ti.com/lit/ds/symlink/sn74ac534.pdf; ComponentLink3Description: Package Specification; ComponentLink3URL: http://www.ti.com/lit/ml/mpds173a/mpds173a.pdf
footprint DW0020A_N (SOIC, 20-Leads, Body 13x7.6mm, Pitch 1.27mm, IPC Medium Density)
footprint DW0020A_M (SOIC, 20-Leads, Body 13x7.6mm, Pitch 1.27mm, IPC Low Density)
footprint DW0020A_L (SOIC, 20-Leads, Body 13x7.6mm, Pitch 1.27mm, IPC High Density)
part A pins: 1 OE (in), 2 1Q (hiz), 3 1D (in), 4 2D (in), 5 2Q (hiz), 6 3Q (hiz), 7 3D (in), 8 4D (in), 9 4Q (hiz), 11 CLK (in), 12 5Q (hiz), 13 5D (in), 14 6D (in), 15 6Q (hiz), 16 7Q (hiz), 17 7D (in), 18 8D (in), 19 8Q (hiz)
part B pins: 10 GND (power), 20 VCC (power)

## SN74AC534DWR
designator U?
Octal Edge-Triggered D-Type Flip-Flops With 3-State Outputs, DW0020A, LARGE T&R; Generic Part Number: SN74AC534; Manufacturer: Texas Instruments; PartNumber: SN74AC534DWR; VCC(Min)(V): 2; VCC(Max)(V): 6; Output Type: CMOS; ICC @ Nom Voltage(Max)(mA): 0.04; Bits(#): 8; F @ Nom Voltage(Max)(Mhz): 100; Rating: Catalog; Technology Family: AC; Voltage(Nom)(V): 3.3,5; Schmitt Trigger: No; Output Drive (IOL/IOH)(Max)(mA): 24/-24; Output Logic: Inverted; 3-State Output: Yes; tpd @ Nom Voltage(Max)(ns): 16,12; DatasheetVersion: SCAS554D; PackageReference: DW0020A; Supplier 1: Digi-Key; Supplier Part Number 1: SN74AC534DWR-ND; Supplier 2: Mouser; Supplier Part Number 2: 595-SN74AC534DWR; Input Type: CMOS; Operating Temperature Range(C): -40 to 85; Code_JEDEC: MS-013; ComponentLink1Description: Manufacturer URL; ComponentLink1URL: http://www.ti.com/; ComponentLink2Description: Datasheet; ComponentLink2URL: http://www.ti.com/lit/ds/symlink/sn74ac534.pdf; ComponentLink3Description: Package Specification; ComponentLink3URL: http://www.ti.com/lit/ml/mpds173a/mpds173a.pdf
footprint DW0020A_N (SOIC, 20-Leads, Body 13x7.6mm, Pitch 1.27mm, IPC Medium Density)
footprint DW0020A_M (SOIC, 20-Leads, Body 13x7.6mm, Pitch 1.27mm, IPC Low Density)
footprint DW0020A_L (SOIC, 20-Leads, Body 13x7.6mm, Pitch 1.27mm, IPC High Density)
part A pins: 1 OE (in), 2 1Q (hiz), 3 1D (in), 4 2D (in), 5 2Q (hiz), 6 3Q (hiz), 7 3D (in), 8 4D (in), 9 4Q (hiz), 11 CLK (in), 12 5Q (hiz), 13 5D (in), 14 6D (in), 15 6Q (hiz), 16 7Q (hiz), 17 7D (in), 18 8D (in), 19 8Q (hiz)
part B pins: 10 GND (power), 20 VCC (power)

## SN74AC534N
designator U?
Octal Edge-Triggered D-Type Flip-Flops With 3-State Outputs, N0020A, TUBE; Generic Part Number: SN74AC534; Manufacturer: Texas Instruments; PartNumber: SN74AC534N; VCC(Min)(V): 2; VCC(Max)(V): 6; Output Type: CMOS; ICC @ Nom Voltage(Max)(mA): 0.04; Bits(#): 8; F @ Nom Voltage(Max)(Mhz): 100; Rating: Catalog; Technology Family: AC; Voltage(Nom)(V): 3.3,5; Schmitt Trigger: No; Output Drive (IOL/IOH)(Max)(mA): 24/-24; Output Logic: Inverted; 3-State Output: Yes; tpd @ Nom Voltage(Max)(ns): 16,12; DatasheetVersion: SCAS554D; PackageReference: N0020A; Supplier 1: Digi-Key; Supplier Part Number 1: 296-4331-5-ND; Supplier 2: Farnell; Supplier Part Number 2: 1749906; Supplier 3: Mouser; Supplier Part Number 3: 595-SN74AC534N; Input Type: CMOS; Operating Temperature Range(C): -40 to 85; Code_JEDEC: MS-001; ComponentLink1Description: Manufacturer URL; ComponentLink1URL: http://www.ti.com/; ComponentLink2Description: Datasheet; ComponentLink2URL: http://www.ti.com/lit/ds/symlink/sn74ac534.pdf; ComponentLink3Description: Package Specification; ComponentLink3URL: http://www.ti.com/lit/ml/mpdi002c/mpdi002c.pdf
footprint N0020A (DIP, 20-Leads, Body 26.9x6.6mm, Pitch 2.54mm)
part A pins: 1 OE (in), 2 1Q (hiz), 3 1D (in), 4 2D (in), 5 2Q (hiz), 6 3Q (hiz), 7 3D (in), 8 4D (in), 9 4Q (hiz), 11 CLK (in), 12 5Q (hiz), 13 5D (in), 14 6D (in), 15 6Q (hiz), 16 7Q (hiz), 17 7D (in), 18 8D (in), 19 8Q (hiz)
part B pins: 10 GND (power), 20 VCC (power)

## SN74AC534NSR
designator U?
Octal Edge-Triggered D-Type Flip-Flops With 3-State Outputs, NS0020A, LARGE T&R; Generic Part Number: SN74AC534; Manufacturer: Texas Instruments; PartNumber: SN74AC534NSR; VCC(Min)(V): 2; VCC(Max)(V): 6; Output Type: CMOS; ICC @ Nom Voltage(Max)(mA): 0.04; Bits(#): 8; F @ Nom Voltage(Max)(Mhz): 100; Rating: Catalog; Technology Family: AC; Voltage(Nom)(V): 3.3,5; Schmitt Trigger: No; Output Drive (IOL/IOH)(Max)(mA): 24/-24; Output Logic: Inverted; 3-State Output: Yes; tpd @ Nom Voltage(Max)(ns): 16,12; DatasheetVersion: SCAS554D; PackageReference: NS0020A; Supplier 1: Digi-Key; Supplier Part Number 1: 296-28700-2-ND; Supplier 2: Digi-Key; Supplier Part Number 2: 296-28700-1-ND; Supplier 3: Digi-Key; Supplier Part Number 3: 296-28700-6-ND; Supplier 4: Mouser; Supplier Part Number 4: 595-SN74AC534NSR; Input Type: CMOS; Operating Temperature Range(C): -40 to 85; ComponentLink1Description: Manufacturer URL; ComponentLink1URL: http://www.ti.com/; ComponentLink2Description: Datasheet; ComponentLink2URL: http://www.ti.com/lit/ds/symlink/sn74ac534.pdf; ComponentLink3Description: Package Specification; ComponentLink3URL: http://www.ti.com/lit/ml/msop002a/msop002a.pdf
footprint NS0020A_N (SOIC,20-Leads,Body 12.9x5.6mm,Pitch 1.27mm,IPC Medium Density)
footprint NS0020A_M (SOIC,20-Leads,Body 12.9x5.6mm,Pitch 1.27mm,IPC Low Density)
footprint NS0020A_L (SOIC,20-Leads,Body 12.9x5.6mm,Pitch 1.27mm,IPC High Density)
part A pins: 1 OE (in), 2 1Q (hiz), 3 1D (in), 4 2D (in), 5 2Q (hiz), 6 3Q (hiz), 7 3D (in), 8 4D (in), 9 4Q (hiz), 11 CLK (in), 12 5Q (hiz), 13 5D (in), 14 6D (in), 15 6Q (hiz), 16 7Q (hiz), 17 7D (in), 18 8D (in), 19 8Q (hiz)
part B pins: 10 GND (power), 20 VCC (power)

## SN74AC534PW
designator U?
Octal Edge-Triggered D-Type Flip-Flops With 3-State Outputs, PW0020A, TUBE; Generic Part Number: SN74AC534; Manufacturer: Texas Instruments; PartNumber: SN74AC534PW; VCC(Min)(V): 2; VCC(Max)(V): 6; Output Type: CMOS; ICC @ Nom Voltage(Max)(mA): 0.04; Bits(#): 8; F @ Nom Voltage(Max)(Mhz): 100; Rating: Catalog; Technology Family: AC; Voltage(Nom)(V): 3.3,5; Schmitt Trigger: No; Output Drive (IOL/IOH)(Max)(mA): 24/-24; Output Logic: Inverted; 3-State Output: Yes; tpd @ Nom Voltage(Max)(ns): 16,12; DatasheetVersion: SCAS554D; PackageReference: PW0020A; Supplier 1: Digi-Key; Supplier Part Number 1: SN74AC534PW-ND; Supplier 2: Mouser; Supplier Part Number 2: 595-SN74AC534PW; Input Type: CMOS; Operating Temperature Range(C): -40 to 85; Code_JEDEC: MO-153; ComponentLink1Description: Manufacturer URL; ComponentLink1URL: http://www.ti.com/; ComponentLink2Description: Datasheet; ComponentLink2URL: http://www.ti.com/lit/ds/symlink/sn74ac534.pdf; ComponentLink3Description: Package Specification; ComponentLink3URL: http://www.ti.com/lit/ml/mpds362/mpds362.pdf
footprint PW0020A_N (SOP, 20-Leads, Body 6.6x4.5mm, Pitch 0.65mm, IPC Medium Density)
footprint PW0020A_M (SOP, 20-Leads, Body 6.6x4.5mm, Pitch 0.65mm, IPC Low Density)
footprint PW0020A_L (SOP, 20-Leads, Body 6.6x4.5mm, Pitch 0.65mm, IPC High Density)
part A pins: 1 OE (in), 2 1Q (hiz), 3 1D (in), 4 2D (in), 5 2Q (hiz), 6 3Q (hiz), 7 3D (in), 8 4D (in), 9 4Q (hiz), 11 CLK (in), 12 5Q (hiz), 13 5D (in), 14 6D (in), 15 6Q (hiz), 16 7Q (hiz), 17 7D (in), 18 8D (in), 19 8Q (hiz)
part B pins: 10 GND (power), 20 VCC (power)

## SN74AC534PWR
designator U?
Octal Edge-Triggered D-Type Flip-Flops With 3-State Outputs, PW0020A, LARGE T&R; Generic Part Number: SN74AC534; Manufacturer: Texas Instruments; PartNumber: SN74AC534PWR; VCC(Min)(V): 2; VCC(Max)(V): 6; Output Type: CMOS; ICC @ Nom Voltage(Max)(mA): 0.04; Bits(#): 8; F @ Nom Voltage(Max)(Mhz): 100; Rating: Catalog; Technology Family: AC; Voltage(Nom)(V): 3.3,5; Schmitt Trigger: No; Output Drive (IOL/IOH)(Max)(mA): 24/-24; Output Logic: Inverted; 3-State Output: Yes; tpd @ Nom Voltage(Max)(ns): 16,12; DatasheetVersion: SCAS554D; PackageReference: PW0020A; Supplier 1: Digi-Key; Supplier Part Number 1: 296-4332-2-ND; Supplier 2: Digi-Key; Supplier Part Number 2: 296-4332-1-ND; Supplier 3: Digi-Key; Supplier Part Number 3: 296-4332-6-ND; Supplier 4: Newark; Supplier Part Number 4: 76C1425; Supplier 5: Mouser; Supplier Part Number 5: 595-SN74AC534PWR; Input Type: CMOS; Operating Temperature Range(C): -40 to 85; Code_JEDEC: MO-153; ComponentLink1Description: Manufacturer URL; ComponentLink1URL: http://www.ti.com/; ComponentLink2Description: Datasheet; ComponentLink2URL: http://www.ti.com/lit/ds/symlink/sn74ac534.pdf; ComponentLink3Description: Package Specification; ComponentLink3URL: http://www.ti.com/lit/ml/mpds362/mpds362.pdf
footprint PW0020A_N (SOP, 20-Leads, Body 6.6x4.5mm, Pitch 0.65mm, IPC Medium Density)
footprint PW0020A_M (SOP, 20-Leads, Body 6.6x4.5mm, Pitch 0.65mm, IPC Low Density)
footprint PW0020A_L (SOP, 20-Leads, Body 6.6x4.5mm, Pitch 0.65mm, IPC High Density)
part A pins: 1 OE (in), 2 1Q (hiz), 3 1D (in), 4 2D (in), 5 2Q (hiz), 6 3Q (hiz), 7 3D (in), 8 4D (in), 9 4Q (hiz), 11 CLK (in), 12 5Q (hiz), 13 5D (in), 14 6D (in), 15 6Q (hiz), 16 7Q (hiz), 17 7D (in), 18 8D (in), 19 8Q (hiz)
part B pins: 10 GND (power), 20 VCC (power)

## SN74AC563DBR
designator U?
Octal D-Type Transparent Latches With 3-State Outputs, DB0020A, LARGE T&R; Generic Part Number: SN74AC563; Manufacturer: Texas Instruments; PartNumber: SN74AC563DBR; VCC(Min)(V): 2; VCC(Max)(V): 6; Output Type: CMOS; Logic: Inverting; Static Current: 0.04; ICC @ Nom Voltage(Max)(mA): 0.08; Bits(#): 8; F @ Nom Voltage(Max)(Mhz): 100; Rating: Catalog; Technology Family: AC; Voltage(Nom)(V): 3.3,5; Schmitt Trigger: No; Output Drive (IOL/IOH)(Max)(mA): 24/-24; Output Logic: Inverted; 3-State Output: Yes; tpd @ Nom Voltage(Max)(ns): 15,11.5; DatasheetVersion: SCAS552C; PackageReference: DB0020A; Supplier 1: Digi-Key; Supplier Part Number 1: 296-4333-2-ND; Supplier 2: Digi-Key; Supplier Part Number 2: 296-4333-1-ND; Supplier 3: Digi-Key; Supplier Part Number 3: 296-4333-6-ND; Supplier 4: Mouser; Supplier Part Number 4: 595-SN74AC563DBR; Input Type: CMOS; Operating Temperature Range(C): -40 to 85; Code_JEDEC: MO-150; ComponentLink1Description: Manufacturer URL; ComponentLink1URL: http://www.ti.com/; ComponentLink2Description: Datasheet; ComponentLink2URL: http://www.ti.com/lit/ds/symlink/sn74ac563.pdf; ComponentLink3Description: Package Specification; ComponentLink3URL: http://www.ti.com/lit/ml/mpds508/mpds508.pdf
footprint DB0020A_N (SOP, 20-Leads, Body 5.6x7.5mm, Pitch 0.65mm, IPC Medium Density)
footprint DB0020A_M (SOP, 20-Leads, Body 5.6x7.5mm, Pitch 0.65mm, IPC Low Density)
footprint DB0020A_L (SOP, 20-Leads, Body 5.6x7.5mm, Pitch 0.65mm, IPC High Density)
pins: 1 ~{OE} (in), 2 1D (in), 3 2D (in), 4 3D (in), 5 4D (in), 6 5D (in), 7 6D (in), 8 7D (in), 9 8D (in), 10 GND (power), 11 LE (in), 12 8~{Q} (hiz), 13 7~{Q} (hiz), 14 6~{Q} (hiz), 15 5~{Q} (hiz), 16 4~{Q} (hiz), 17 3~{Q} (hiz), 18 2~{Q} (hiz), 19 1~{Q} (hiz), 20 VCC (power)

## SN74AC563DW
designator U?
Octal D-Type Transparent Latches With 3-State Outputs, DW0020A, TUBE; Generic Part Number: SN74AC563; Manufacturer: Texas Instruments; PartNumber: SN74AC563DW; VCC(Min)(V): 2; VCC(Max)(V): 6; Output Type: CMOS; Logic: Inverting; Static Current: 0.04; ICC @ Nom Voltage(Max)(mA): 0.08; Bits(#): 8; F @ Nom Voltage(Max)(Mhz): 100; Rating: Catalog; Technology Family: AC; Voltage(Nom)(V): 3.3,5; Schmitt Trigger: No; Output Drive (IOL/IOH)(Max)(mA): 24/-24; Output Logic: Inverted; 3-State Output: Yes; tpd @ Nom Voltage(Max)(ns): 15,11.5; DatasheetVersion: SCAS552C; PackageReference: DW0020A; Supplier 1: Digi-Key; Supplier Part Number 1: 296-4334-5-ND; Supplier 2: Mouser; Supplier Part Number 2: 595-SN74AC563DW; Input Type: CMOS; Operating Temperature Range(C): -40 to 85; Code_JEDEC: MS-013; ComponentLink1Description: Manufacturer URL; ComponentLink1URL: http://www.ti.com/; ComponentLink2Description: Datasheet; ComponentLink2URL: http://www.ti.com/lit/ds/symlink/sn74ac563.pdf; ComponentLink3Description: Package Specification; ComponentLink3URL: http://www.ti.com/lit/ml/mpds173a/mpds173a.pdf
footprint DW0020A_N (SOIC, 20-Leads, Body 13x7.6mm, Pitch 1.27mm, IPC Medium Density)
footprint DW0020A_M (SOIC, 20-Leads, Body 13x7.6mm, Pitch 1.27mm, IPC Low Density)
footprint DW0020A_L (SOIC, 20-Leads, Body 13x7.6mm, Pitch 1.27mm, IPC High Density)
pins: 1 ~{OE} (in), 2 1D (in), 3 2D (in), 4 3D (in), 5 4D (in), 6 5D (in), 7 6D (in), 8 7D (in), 9 8D (in), 10 GND (power), 11 LE (in), 12 8~{Q} (hiz), 13 7~{Q} (hiz), 14 6~{Q} (hiz), 15 5~{Q} (hiz), 16 4~{Q} (hiz), 17 3~{Q} (hiz), 18 2~{Q} (hiz), 19 1~{Q} (hiz), 20 VCC (power)

## SN74AC563N
designator U?
Octal D-Type Transparent Latches With 3-State Outputs, N0020A, TUBE; Generic Part Number: SN74AC563; Manufacturer: Texas Instruments; PartNumber: SN74AC563N; VCC(Min)(V): 2; VCC(Max)(V): 6; Output Type: CMOS; Logic: Inverting; Static Current: 0.04; ICC @ Nom Voltage(Max)(mA): 0.08; Bits(#): 8; F @ Nom Voltage(Max)(Mhz): 100; Rating: Catalog; Technology Family: AC; Voltage(Nom)(V): 3.3,5; Schmitt Trigger: No; Output Drive (IOL/IOH)(Max)(mA): 24/-24; Output Logic: Inverted; 3-State Output: Yes; tpd @ Nom Voltage(Max)(ns): 15,11.5; DatasheetVersion: SCAS552C; PackageReference: N0020A; Supplier 1: Digi-Key; Supplier Part Number 1: 296-33648-5-ND; Supplier 2: Farnell; Supplier Part Number 2: 1750086; Supplier 3: Mouser; Supplier Part Number 3: 595-SN74AC563N; Input Type: CMOS; Operating Temperature Range(C): -40 to 85; Code_JEDEC: MS-001; ComponentLink1Description: Manufacturer URL; ComponentLink1URL: http://www.ti.com/; ComponentLink2Description: Datasheet; ComponentLink2URL: http://www.ti.com/lit/ds/symlink/sn74ac563.pdf; ComponentLink3Description: Package Specification; ComponentLink3URL: http://www.ti.com/lit/ml/mpdi002c/mpdi002c.pdf
footprint N0020A (DIP, 20-Leads, Body 26.9x6.6mm, Pitch 2.54mm)
pins: 1 ~{OE} (in), 2 1D (in), 3 2D (in), 4 3D (in), 5 4D (in), 6 5D (in), 7 6D (in), 8 7D (in), 9 8D (in), 10 GND (power), 11 LE (in), 12 8~{Q} (hiz), 13 7~{Q} (hiz), 14 6~{Q} (hiz), 15 5~{Q} (hiz), 16 4~{Q} (hiz), 17 3~{Q} (hiz), 18 2~{Q} (hiz), 19 1~{Q} (hiz), 20 VCC (power)

## SN74AC563PW
designator U?
Octal D-Type Transparent Latches With 3-State Outputs, PW0020A, TUBE; Generic Part Number: SN74AC563; Manufacturer: Texas Instruments; PartNumber: SN74AC563PW; VCC(Min)(V): 2; VCC(Max)(V): 6; Output Type: CMOS; Logic: Inverting; Static Current: 0.04; ICC @ Nom Voltage(Max)(mA): 0.08; Bits(#): 8; F @ Nom Voltage(Max)(Mhz): 100; Rating: Catalog; Technology Family: AC; Voltage(Nom)(V): 3.3,5; Schmitt Trigger: No; Output Drive (IOL/IOH)(Max)(mA): 24/-24; Output Logic: Inverted; 3-State Output: Yes; tpd @ Nom Voltage(Max)(ns): 15,11.5; DatasheetVersion: SCAS552C; PackageReference: PW0020A; Supplier 1: Digi-Key; Supplier Part Number 1: SN74AC563PW-ND; Supplier 2: Farnell; Supplier Part Number 2: 1750087; Supplier 3: Mouser; Supplier Part Number 3: 595-SN74AC563PW; Input Type: CMOS; Operating Temperature Range(C): -40 to 85; Code_JEDEC: MO-153; ComponentLink1Description: Manufacturer URL; ComponentLink1URL: http://www.ti.com/; ComponentLink2Description: Datasheet; ComponentLink2URL: http://www.ti.com/lit/ds/symlink/sn74ac563.pdf; ComponentLink3Description: Package Specification; ComponentLink3URL: http://www.ti.com/lit/ml/mpds362/mpds362.pdf
footprint PW0020A_N (SOP, 20-Leads, Body 6.6x4.5mm, Pitch 0.65mm, IPC Medium Density)
footprint PW0020A_M (SOP, 20-Leads, Body 6.6x4.5mm, Pitch 0.65mm, IPC Low Density)
footprint PW0020A_L (SOP, 20-Leads, Body 6.6x4.5mm, Pitch 0.65mm, IPC High Density)
pins: 1 ~{OE} (in), 2 1D (in), 3 2D (in), 4 3D (in), 5 4D (in), 6 5D (in), 7 6D (in), 8 7D (in), 9 8D (in), 10 GND (power), 11 LE (in), 12 8~{Q} (hiz), 13 7~{Q} (hiz), 14 6~{Q} (hiz), 15 5~{Q} (hiz), 16 4~{Q} (hiz), 17 3~{Q} (hiz), 18 2~{Q} (hiz), 19 1~{Q} (hiz), 20 VCC (power)

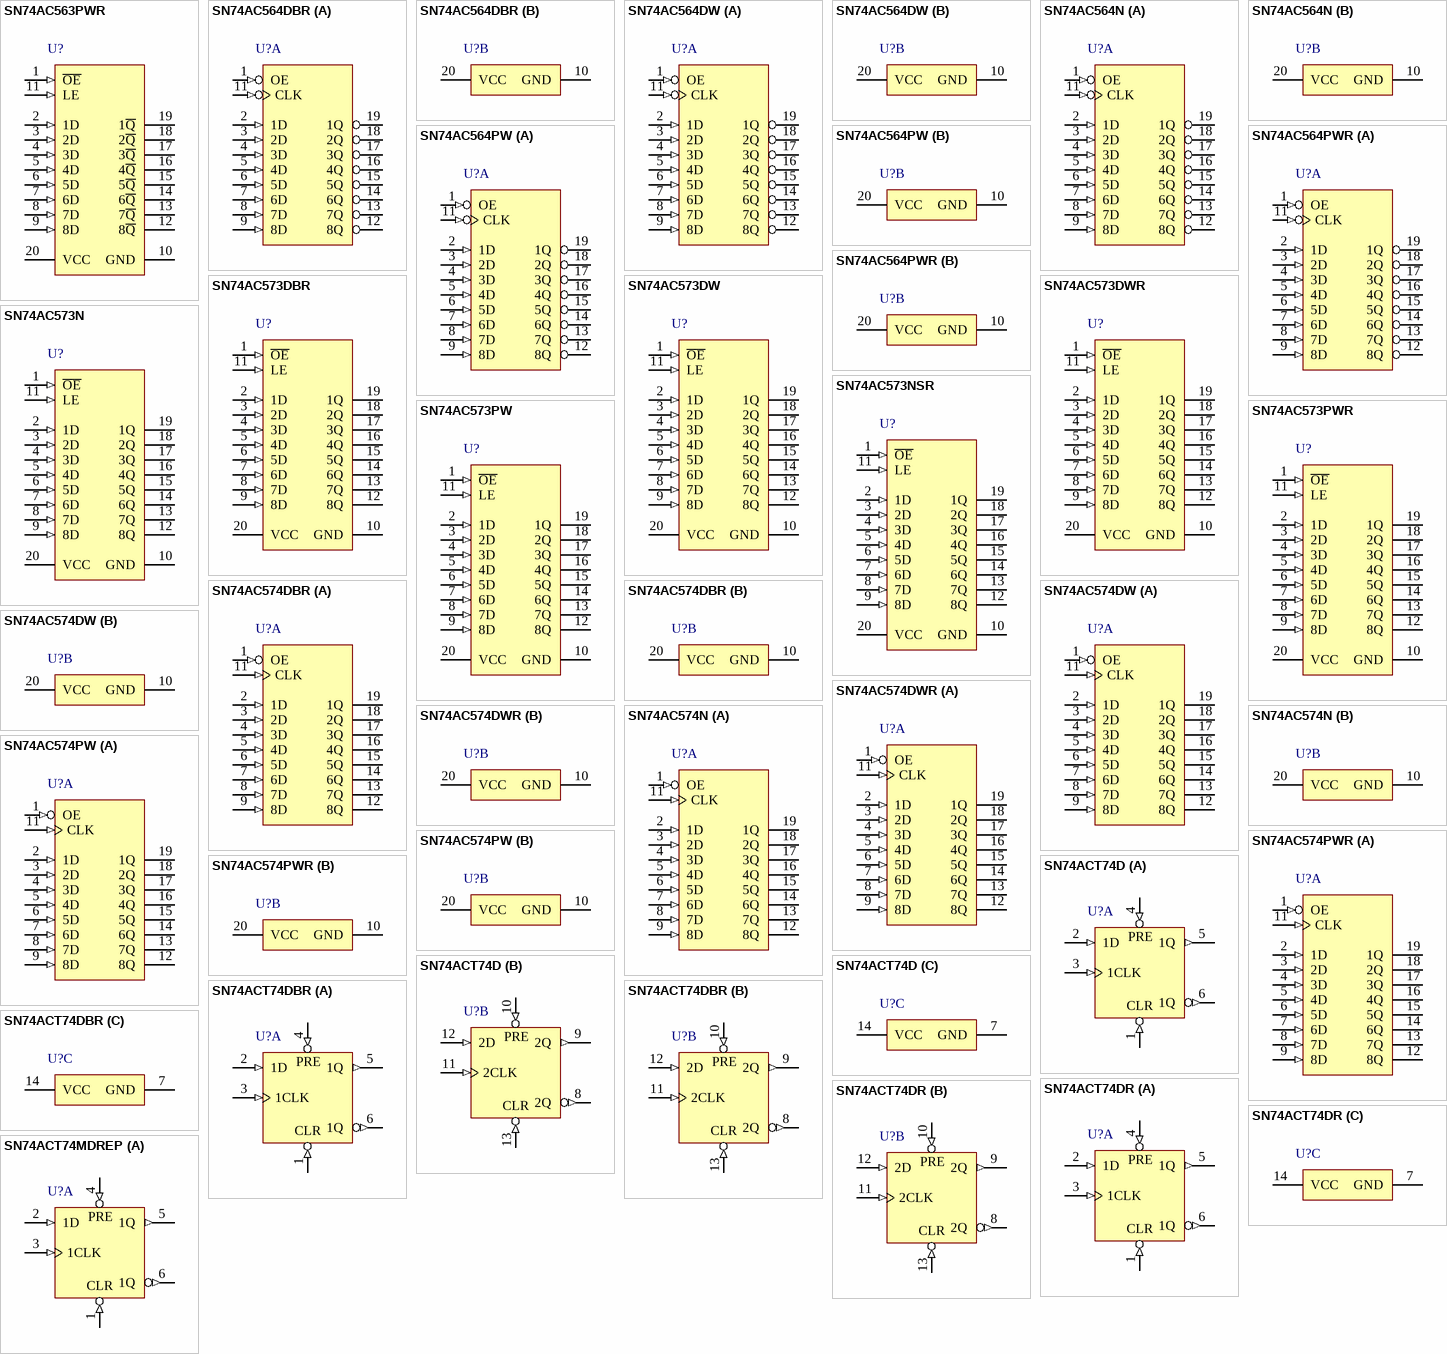
[diagram p49: symbols SN74AC563PWR to SN74ACT74MDREP]

## SN74AC563PWR
designator U?
Octal D-Type Transparent Latches With 3-State Outputs, PW0020A, LARGE T&R; Generic Part Number: SN74AC563; Manufacturer: Texas Instruments; PartNumber: SN74AC563PWR; VCC(Min)(V): 2; VCC(Max)(V): 6; Output Type: CMOS; Logic: Inverting; Static Current: 0.04; ICC @ Nom Voltage(Max)(mA): 0.08; Bits(#): 8; F @ Nom Voltage(Max)(Mhz): 100; Rating: Catalog; Technology Family: AC; Voltage(Nom)(V): 3.3,5; Schmitt Trigger: No; Output Drive (IOL/IOH)(Max)(mA): 24/-24; Output Logic: Inverted; 3-State Output: Yes; tpd @ Nom Voltage(Max)(ns): 15,11.5; DatasheetVersion: SCAS552C; PackageReference: PW0020A; Supplier 1: Digi-Key; Supplier Part Number 1: 296-4335-2-ND; Supplier 2: Digi-Key; Supplier Part Number 2: 296-4335-1-ND; Supplier 3: Digi-Key; Supplier Part Number 3: 296-4335-6-ND; Supplier 4: Mouser; Supplier Part Number 4: 595-SN74AC563PWR; Input Type: CMOS; Operating Temperature Range(C): -40 to 85; Code_JEDEC: MO-153; ComponentLink1Description: Manufacturer URL; ComponentLink1URL: http://www.ti.com/; ComponentLink2Description: Datasheet; ComponentLink2URL: http://www.ti.com/lit/ds/symlink/sn74ac563.pdf; ComponentLink3Description: Package Specification; ComponentLink3URL: http://www.ti.com/lit/ml/mpds362/mpds362.pdf
footprint PW0020A_N (SOP, 20-Leads, Body 6.6x4.5mm, Pitch 0.65mm, IPC Medium Density)
footprint PW0020A_M (SOP, 20-Leads, Body 6.6x4.5mm, Pitch 0.65mm, IPC Low Density)
footprint PW0020A_L (SOP, 20-Leads, Body 6.6x4.5mm, Pitch 0.65mm, IPC High Density)
pins: 1 ~{OE} (in), 2 1D (in), 3 2D (in), 4 3D (in), 5 4D (in), 6 5D (in), 7 6D (in), 8 7D (in), 9 8D (in), 10 GND (power), 11 LE (in), 12 8~{Q} (hiz), 13 7~{Q} (hiz), 14 6~{Q} (hiz), 15 5~{Q} (hiz), 16 4~{Q} (hiz), 17 3~{Q} (hiz), 18 2~{Q} (hiz), 19 1~{Q} (hiz), 20 VCC (power)

## SN74AC564DBR
designator U?
Octal D-Type Edge-Triggered Flip-Flops With 3-State Outputs, DB0020A, LARGE T&R; Generic Part Number: SN74AC564; Manufacturer: Texas Instruments; PartNumber: SN74AC564DBR; VCC(Min)(V): 2; VCC(Max)(V): 6; Output Type: CMOS; ICC @ Nom Voltage(Max)(mA): 0.04; Bits(#): 8; F @ Nom Voltage(Max)(Mhz): 100; Rating: Catalog; Technology Family: AC; Voltage(Nom)(V): 3.3,5; Schmitt Trigger: No; Output Drive (IOL/IOH)(Max)(mA): 24/-24; Output Logic: Inverted; 3-State Output: Yes; tpd @ Nom Voltage(Max)(ns): 15.5,11.5; DatasheetVersion: SCAS551D; PackageReference: DB0020A; Supplier 1: Digi-Key; Supplier Part Number 1: SN74AC564DBR-ND; Supplier 2: Mouser; Supplier Part Number 2: 595-SN74AC564DBR; Input Type: CMOS; Operating Temperature Range(C): -40 to 85; Code_JEDEC: MO-150; ComponentLink1Description: Manufacturer URL; ComponentLink1URL: http://www.ti.com/; ComponentLink2Description: Datasheet; ComponentLink2URL: http://www.ti.com/lit/ds/symlink/sn74ac564.pdf; ComponentLink3Description: Package Specification; ComponentLink3URL: http://www.ti.com/lit/ml/mpds508/mpds508.pdf
footprint DB0020A_N (SOP, 20-Leads, Body 5.6x7.5mm, Pitch 0.65mm, IPC Medium Density)
footprint DB0020A_M (SOP, 20-Leads, Body 5.6x7.5mm, Pitch 0.65mm, IPC Low Density)
footprint DB0020A_L (SOP, 20-Leads, Body 5.6x7.5mm, Pitch 0.65mm, IPC High Density)
part A pins: 1 OE (in), 2 1D (in), 3 2D (in), 4 3D (in), 5 4D (in), 6 5D (in), 7 6D (in), 8 7D (in), 9 8D (in), 11 CLK (in), 12 8Q (hiz), 13 7Q (hiz), 14 6Q (hiz), 15 5Q (hiz), 16 4Q (hiz), 17 3Q (hiz), 18 2Q (hiz), 19 1Q (hiz)
part B pins: 10 GND (power), 20 VCC (power)

## SN74AC564DW
designator U?
Octal D-Type Edge-Triggered Flip-Flops With 3-State Outputs, DW0020A, TUBE; Generic Part Number: SN74AC564; Manufacturer: Texas Instruments; PartNumber: SN74AC564DW; VCC(Min)(V): 2; VCC(Max)(V): 6; Output Type: CMOS; ICC @ Nom Voltage(Max)(mA): 0.04; Bits(#): 8; F @ Nom Voltage(Max)(Mhz): 100; Rating: Catalog; Technology Family: AC; Voltage(Nom)(V): 3.3,5; Schmitt Trigger: No; Output Drive (IOL/IOH)(Max)(mA): 24/-24; Output Logic: Inverted; 3-State Output: Yes; tpd @ Nom Voltage(Max)(ns): 15.5,11.5; DatasheetVersion: SCAS551D; PackageReference: DW0020A; Supplier 1: Digi-Key; Supplier Part Number 1: 296-4336-5-ND; Supplier 2: Mouser; Supplier Part Number 2: 595-SN74AC564DW; Input Type: CMOS; Operating Temperature Range(C): -40 to 85; Code_JEDEC: MS-013; ComponentLink1Description: Manufacturer URL; ComponentLink1URL: http://www.ti.com/; ComponentLink2Description: Datasheet; ComponentLink2URL: http://www.ti.com/lit/ds/symlink/sn74ac564.pdf; ComponentLink3Description: Package Specification; ComponentLink3URL: http://www.ti.com/lit/ml/mpds173a/mpds173a.pdf
footprint DW0020A_N (SOIC, 20-Leads, Body 13x7.6mm, Pitch 1.27mm, IPC Medium Density)
footprint DW0020A_M (SOIC, 20-Leads, Body 13x7.6mm, Pitch 1.27mm, IPC Low Density)
footprint DW0020A_L (SOIC, 20-Leads, Body 13x7.6mm, Pitch 1.27mm, IPC High Density)
part A pins: 1 OE (in), 2 1D (in), 3 2D (in), 4 3D (in), 5 4D (in), 6 5D (in), 7 6D (in), 8 7D (in), 9 8D (in), 11 CLK (in), 12 8Q (hiz), 13 7Q (hiz), 14 6Q (hiz), 15 5Q (hiz), 16 4Q (hiz), 17 3Q (hiz), 18 2Q (hiz), 19 1Q (hiz)
part B pins: 10 GND (power), 20 VCC (power)